# Altium footprint library Infrared Receiver & Transmitter.PcbLib: 3 footprints
Each footprint in its own frame and in the unit in brackets; x right, y up, seen from the top. Pads: shape width x height; smd on the part's side, far side on the other; paste and mask are expansions set on the pad; w line width, h text height; cw(c..) or ccw(c..) is an arc to the next point about the centre after c.
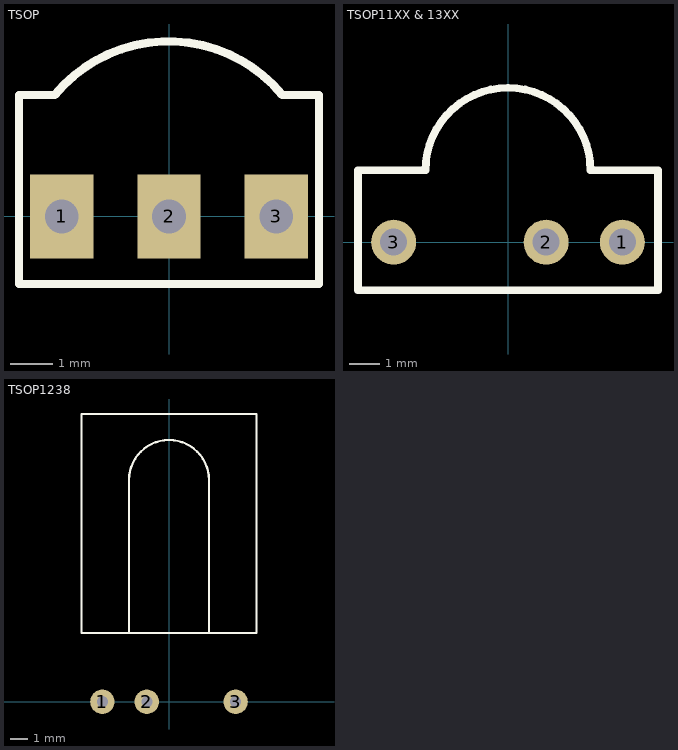
[diagram p0: the footprints below, top view; thin cyan lines are the x and y axes]

## TSOP [mm]
height 10.95
pads (3):
  rect 1.5x2 hole 0.8: 1(-2.54,0) 2(0,0) 3(2.54,0)
Top Overlay:
  lines w0.2: -3.556,-1.6 3.556,-1.6 3.556,2.881 2.688,2.881 ccw(c-0.011,0.652) -2.709,2.881 -3.556,2.881 -3.556,-1.6
3D body "User Library-IR reciver2.STEP": height 9.48, standoff -2.51, extent -3,-1.27 3,3.946
3D body "Crystal 32.768.STEP": height 9.53, standoff -1.25, extent 2.44,2.972 5.89,6.16

## TSOP11XX & 13XX [mm]
pads (3):
  round 1.5 hole 0.9: 1(3.81,0) 2(1.27,0) 3(-3.81,0)
Top Overlay:
  lines w0.127: 0,-1.6 0,-1.6
  lines w0.254: -5,-1.6 -5,2.4 -2.75,2.4 cw(c0,2.4) 2.75,2.4 5,2.4 5,-1.6 -5,-1.6
3D body "User Library-TSOP1133.STEP": height 14.25, standoff -16.35, extent -5,-1.6 5,5.15

## TSOP1238 [mil]
pads (3):
  round 55 hole 25: 1(-150,0) 2(-50,0) 3(150,0)
Top Overlay:
  lines w5: -90,155 -90,500 cw(c0,500) 90,500 90,155 ; -196.85,155 196.85,155 196.85,648.48 -196.85,648.48 -196.85,155
3D body "TSOP1238_2009.STEP": height 228.35, standoff -84.65, extent -196.85,-9 196.85,648.48